# Altium footprint library Nimb_Ring_2_0.PcbLib: 49 footprints (part 3 of 4)
Each footprint in its own frame and in the unit in brackets; x right, y up, seen from the top. Pads: shape width x height; smd on the part's side, far side on the other; paste and mask are expansions set on the pad; w line width, h text height; cw(c..) or ccw(c..) is an arc to the next point about the centre after c.
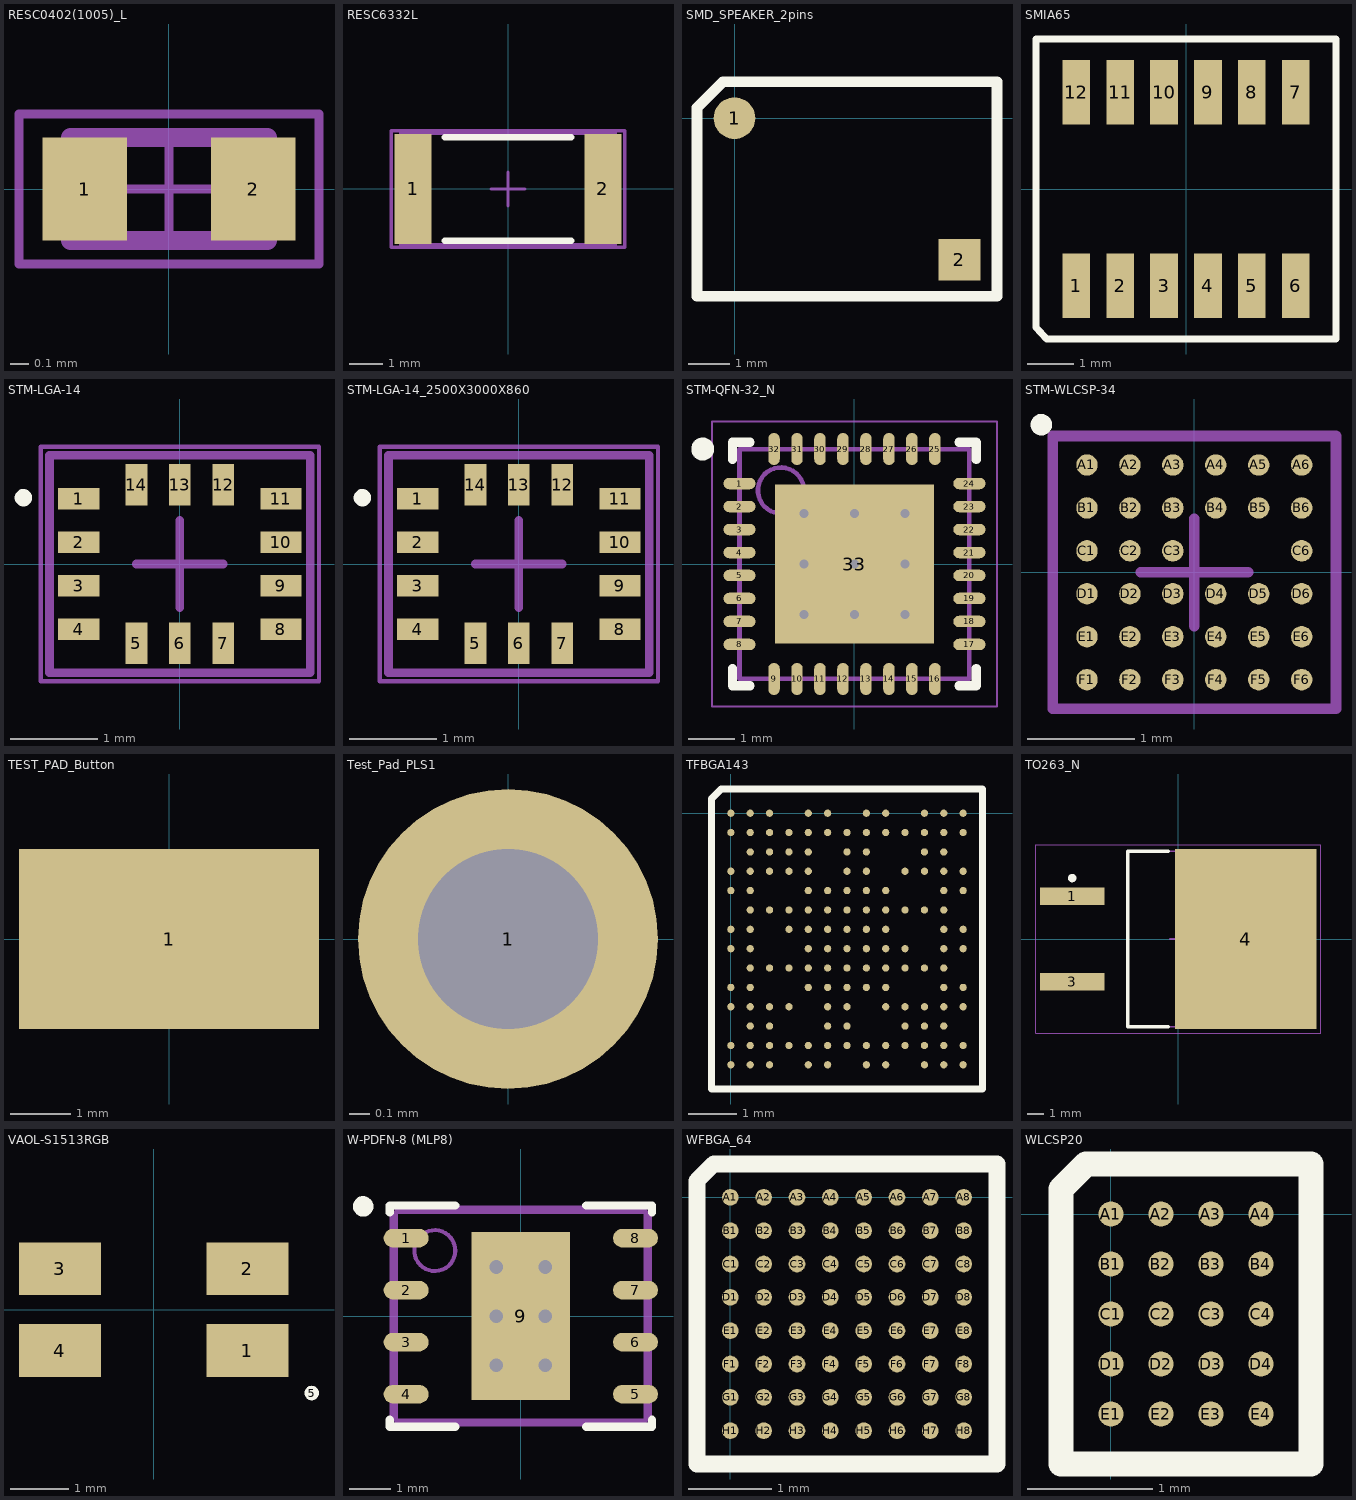
[diagram p2: the footprints below, top view; thin cyan lines are the x and y axes]

## RESC0402(1005)_L [mm] "Chip Resistor, Body 1.0x0.5mm, IPC High Density"
height 0.4
pads (2):
  rect 0.45x0.55 smd: 1(-0.45,0) 2(0.45,0)
Mechanical 13:
  lines w0.1: -0.525,-0.275 -0.525,0.275 0.525,0.275 0.525,-0.275 -0.525,-0.275
Mechanical 15:
  lines w0.05: -0.275,0 0.275,0 ; 0,-0.275 0,0.275 ; -0.8,-0.4 -0.8,0.4 0.8,0.4 0.8,-0.4 -0.8,-0.4
3D body: height 0.4, standoff 0, extent -0.525,-0.275 -0.3,0.275
3D body: height 0.4, standoff 0, extent -0.3,-0.275 0.3,0.275
3D body: height 0.4, standoff 0, extent 0.3,-0.275 0.525,0.275

## RESC6332L [mm] "Chip Resistor, Body 6.3x3.2mm, IPC High Density"
height 0.71
pads (2):
  rect 1.1x3.3 smd: 1(-2.85,0) 2(2.85,0)
Top Overlay:
  lines w0.2: -1.9,-1.55 1.9,-1.55 ; -1.9,1.55 1.9,1.55
Mechanical 13:
  lines w0.1: -3.225,-1.675 -3.225,1.675 3.225,1.675 3.225,-1.675 -3.225,-1.675
Mechanical 15:
  lines w0.1: -0.5,0 0.5,0 ; 0,-0.5 0,0.5 ; -3.5,-1.75 -3.5,1.75 3.5,1.75 3.5,-1.75 -3.5,-1.75
3D body: height 0.71, standoff 0, extent -3.225,-1.675 3.225,1.675

## SMD_SPEAKER_2pins [mm] "Achelous speaker"
height 1.62
pads (2):
  round 1 smd: 1(0,0)
  rect 1x1 smd: 2(5.4,-3.4)
Top Overlay:
  lines w0.254: -0.9,-4.275 -0.9,0.25 -0.275,0.875 6.3,0.875 6.3,-4.275 -0.9,-4.275
3D body: height 1.67, standoff 0.01, extent -0.625,-4.05 6.075,0.65

## SMIA65 [mm] "6.5mm x 6.5mm camera"
height 4.24
pads (12):
  rect 0.6x1.4 smd: 1(-2.375,-2.1) 2(-1.425,-2.1) 3(-0.475,-2.1) 4(0.475,-2.1) 5(1.425,-2.1) 6(2.375,-2.1) 7(2.375,2.1) 8(1.425,2.1) 9(0.475,2.1) 10(-0.475,2.1) 11(-1.425,2.1) 12(-2.375,2.1)
Top Overlay:
  lines w0.15: -3.25,-3 -3.25,3.25 3.25,3.25 3.25,-3.25 -3,-3.25 -3.017,-3.249 -3.25,-3

## STM-LGA-14 [mm] "LGA, 14-Leads, Body 3x2.5mm, Pitch 0.5mm"
height 0.86
pads (14):
  rect 0.475x0.25 smd: 1(-1.162,0.75) 2(-1.162,0.25) 3(-1.162,-0.25) 4(-1.162,-0.75) 8(1.162,-0.75) 9(1.162,-0.25) 10(1.162,0.25) 11(1.162,0.75)
  rect 0.25x0.475 smd: 5(-0.5,-0.913) 6(0,-0.913) 7(0.5,-0.913) 12(0.5,0.913) 13(0,0.913) 14(-0.5,0.913)
Top Overlay:
  circle w0.1: c-1.8,0.762 r0.05
Mechanical 13:
  lines w0.1: -1.5,-1.25 -1.5,1.25 1.5,1.25 1.5,-1.25 -1.5,-1.25
Mechanical 15:
  lines w0.05: -1.6,-1.35 -1.6,1.35 1.6,1.35 1.6,-1.35 -1.6,-1.35
  lines w0.1: -0.5,0 0.5,0 ; 0,-0.5 0,0.5
3D body: height 0.86, standoff 0, extent -1.5,-1.25 1.5,1.25

## STM-LGA-14_2500X3000X860 [mm] "LGA, 14-Leads, Body 3x2.5mm, Pitch 0.5mm"
height 0.86
pads (14):
  rect 0.475x0.25 smd: 1(-1.162,0.75) 2(-1.162,0.25) 3(-1.162,-0.25) 4(-1.162,-0.75) 8(1.162,-0.75) 9(1.162,-0.25) 10(1.162,0.25) 11(1.162,0.75)
  rect 0.25x0.475 smd: 5(-0.5,-0.913) 6(0,-0.913) 7(0.5,-0.913) 12(0.5,0.913) 13(0,0.913) 14(-0.5,0.913)
Top Overlay:
  circle w0.1: c-1.8,0.762 r0.05
Mechanical 13:
  lines w0.1: -1.5,-1.25 1.5,-1.25 1.5,1.25 -1.5,1.25 -1.5,-1.25
Mechanical 15:
  lines w0.05: -1.6,-1.35 1.6,-1.35 1.6,1.35 -1.6,1.35 -1.6,-1.35
  lines w0.1: -0.5,0 0.5,0 ; 0,-0.5 0,0.5
3D body: height 0.86, standoff 0, extent -1.5,-1.25 1.5,1.25

## STM-QFN-32_N [mm] "QFN, 32-Leads, Body 5x5mm, Pitch 0.5mm, Thermal Pad 3.45x3.45mm, IPC Medium Density"
height 1
pads (33):
  oval 0.7x0.25 smd: 1(-2.5,1.75) 2(-2.5,1.25) 3(-2.5,0.75) 4(-2.5,0.25) 5(-2.5,-0.25) 6(-2.5,-0.75) 7(-2.5,-1.25) 8(-2.5,-1.75) 17(2.5,-1.75) 18(2.5,-1.25) 19(2.5,-0.75) 20(2.5,-0.25) 21(2.5,0.25) 22(2.5,0.75) 23(2.5,1.25) 24(2.5,1.75)
  oval 0.25x0.7 smd: 9(-1.75,-2.5) 10(-1.25,-2.5) 11(-0.75,-2.5) 12(-0.25,-2.5) 13(0.25,-2.5) 14(0.75,-2.5) 15(1.25,-2.5) 16(1.75,-2.5) 25(1.75,2.5) 26(1.25,2.5) 27(0.75,2.5) 28(0.25,2.5) 29(-0.25,2.5) 30(-0.75,2.5) 31(-1.25,2.5) 32(-1.75,2.5)
  rect 3.45x3.45 smd: 33(0,0)
via 1.1,-1.1 diameter 0.5 hole 0.2
via 0,-1.1 diameter 0.5 hole 0.2
via -1.1,-1.1 diameter 0.5 hole 0.2
via 1.1,0 diameter 0.5 hole 0.2
via 0,0 diameter 0.5 hole 0.2
via -1.1,0 diameter 0.5 hole 0.2
via 1.1,1.1 diameter 0.5 hole 0.2
via 0,1.1 diameter 0.5 hole 0.2
via -1.1,1.1 diameter 0.5 hole 0.2
Top Overlay:
  circle w0.25: c-3.3,2.5 r0.125
  lines w0.2: -2.65,-2.275 -2.65,-2.65 -2.275,-2.65 ; -2.65,2.275 -2.65,2.65 -2.275,2.65 ; 2.275,-2.65 2.65,-2.65 2.65,-2.275 ; 2.275,2.65 2.65,2.65 2.65,2.275
Mechanical 13:
  circle w0.1: c-1.6,1.6 r0.5
  lines w0.1: -2.5,-2.5 2.5,-2.5 2.5,2.5 -2.5,2.5 -2.5,-2.5
Mechanical 15:
  lines w0.05: -3.1,-3.1 3.1,-3.1 3.1,3.1 -3.1,3.1 -3.1,-3.1
  lines w0.1: -0.5,0 0.5,0 ; 0,-0.5 0,0.5
3D body: height 1, standoff 0, extent -2.5,-2.5 2.5,2.5

## STM-WLCSP-34 [mm] "BGA, 34-Leads, Body 2.64x2.54mm, Pitch 0.4mm"
height 0.5
pads (34):
  round 0.2 smd: A1(-1,1) A2(-0.6,1) A3(-0.2,1) A4(0.2,1) A5(0.6,1) A6(1,1) B1(-1,0.6) B2(-0.6,0.6) B3(-0.2,0.6) B4(0.2,0.6) B5(0.6,0.6) B6(1,0.6) C1(-1,0.2) C2(-0.6,0.2) C3(-0.2,0.2) C6(1,0.2) D1(-1,-0.2) D2(-0.6,-0.2) D3(-0.2,-0.2) D4(0.2,-0.2) D5(0.6,-0.2) D6(1,-0.2) E1(-1,-0.6) E2(-0.6,-0.6) E3(-0.2,-0.6) E4(0.2,-0.6) E5(0.6,-0.6) E6(1,-0.6) F1(-1,-1) F2(-0.6,-1) F3(-0.2,-1) F4(0.2,-1) F5(0.6,-1) F6(1,-1)
Top Overlay:
  circle w0.1: c-1.425,1.375 r0.05
Mechanical 13:
  lines w0.1: -1.32,-1.27 1.32,-1.27 1.32,1.27 -1.32,1.27 -1.32,-1.27
Mechanical 15:
  lines w0.1: -0.5,0 0.5,0 ; 0,-0.5 0,0.5 ; -1.32,-1.27 -1.32,1.27 1.32,1.27 1.32,-1.27 -1.32,-1.27
3D body: height 0.5, standoff 0.2, extent -1.32,-1.27 1.32,1.27

## TEST_PAD_Button [mm]
pads (1):
  rect 5x3 smd: 1(0,0)

## Test_Pad_PLS1 [mm]
pads (1):
  round 1.5 hole 0.9 paste+0.1 mask+0: 1(0,0)
3D body "User Library-PLS-1.STEP": height 8.44, standoff -3, extent -1.27,-1.27 1.27,1.27

## TFBGA143 [mm] "5.4mm?6.2mm, 143-ball, 0.4mm pitch"
height 1
pads (143):
  round 0.15 smd: A1(0,0) A2(0.4,0) A3(0.8,0) A5(1.6,0) A6(2,0) A8(2.8,0) A9(3.2,0) A11(4,0) A12(4.4,0) A13(4.8,0) B1(0,-0.4) B2(0.4,-0.4) B3(0.8,-0.4) B4(1.2,-0.4) B5(1.6,-0.4) B6(2,-0.4) B7(2.4,-0.4) B8(2.8,-0.4) B9(3.2,-0.4) B10(3.6,-0.4) B11(4,-0.4) B12(4.4,-0.4) B13(4.8,-0.4) C2(0.4,-0.8) C3(0.8,-0.8) C4(1.2,-0.8) C5(1.6,-0.8) C7(2.4,-0.8) C8(2.8,-0.8) C11(4,-0.8) C12(4.4,-0.8) D1(0,-1.2) D2(0.4,-1.2) D3(0.8,-1.2) D4(1.2,-1.2) D5(1.6,-1.2) D7(2.4,-1.2) D8(2.8,-1.2) D10(3.6,-1.2) D11(4,-1.2) D12(4.4,-1.2) D13(4.8,-1.2) E1(0,-1.6) E2(0.4,-1.6) E5(1.6,-1.6) E6(2,-1.6) E7(2.4,-1.6) E8(2.8,-1.6) E9(3.2,-1.6) E12(4.4,-1.6) E13(4.8,-1.6) F2(0.4,-2) F3(0.8,-2) F4(1.2,-2) F5(1.6,-2) F6(2,-2) F7(2.4,-2) F8(2.8,-2) F9(3.2,-2) F10(3.6,-2) F11(4,-2) F12(4.4,-2) G1(0,-2.4) G2(0.4,-2.4) G4(1.2,-2.4) G5(1.6,-2.4) G6(2,-2.4) G7(2.4,-2.4) G8(2.8,-2.4) G9(3.2,-2.4) G12(4.4,-2.4) G13(4.8,-2.4) H1(0,-2.8) H2(0.4,-2.8) H5(1.6,-2.8) H6(2,-2.8) H7(2.4,-2.8) H8(2.8,-2.8) H9(3.2,-2.8) H10(3.6,-2.8) H12(4.4,-2.8) H13(4.8,-2.8) J2(0.4,-3.2) J3(0.8,-3.2) J4(1.2,-3.2) J5(1.6,-3.2) J6(2,-3.2) J7(2.4,-3.2) J8(2.8,-3.2) J9(3.2,-3.2) J10(3.6,-3.2) J11(4,-3.2) J12(4.4,-3.2) K1(0,-3.6) K2(0.4,-3.6) K5(1.6,-3.6) K6(2,-3.6) K7(2.4,-3.6) K8(2.8,-3.6) K9(3.2,-3.6) K12(4.4,-3.6) K13(4.8,-3.6) L1(0,-4) L2(0.4,-4) L3(0.8,-4) L4(1.2,-4) L6(2,-4) L7(2.4,-4) L9(3.2,-4) L10(3.6,-4) L11(4,-4) L12(4.4,-4) L13(4.8,-4) M2(0.4,-4.4) M3(0.8,-4.4) M6(2,-4.4) M7(2.4,-4.4) M10(3.6,-4.4) M11(4,-4.4) M12(4.4,-4.4) N1(0,-4.8) N2(0.4,-4.8) N3(0.8,-4.8) N4(1.2,-4.8) N5(1.6,-4.8) N6(2,-4.8) N7(2.4,-4.8) N8(2.8,-4.8) N9(3.2,-4.8) N10(3.6,-4.8) N11(4,-4.8) N12(4.4,-4.8) N13(4.8,-4.8) P1(0,-5.2) P2(0.4,-5.2) P3(0.8,-5.2) P5(1.6,-5.2) P6(2,-5.2) P8(2.8,-5.2) P9(3.2,-5.2) P11(4,-5.2) P12(4.4,-5.2) P13(4.8,-5.2)
Top Overlay:
  lines w0.15: -0.4,-5.7 -0.4,0.3 -0.2,0.5 5.2,0.5 5.2,-5.7 -0.4,-5.7
3D body: height 1, standoff 0, extent -0.3,-5.7 5.1,0.5

## TO263_N [mm] "D2-PAK, 4-Leads, Body 9.1x10.2mm, Pitch 2.54mm, Lead Span 15.2mm, IPC Medium Density"
height 4.7
pads (3):
  rect 3.8x1.05 smd: 1(-6.3,2.54) 3(-6.3,-2.54)
  rect 8.4x10.7 smd: 4(4,0)
Top Overlay:
  circle w0.25: c-6.3,3.615 r0.125
  lines w0.2: -0.6,-5.2 -3,-5.2 -3,5.2 -0.6,5.2
Mechanical 13:
  lines w0.1: -3,-5.2 6.65,-5.2 6.65,5.2 -3,5.2 -3,-5.2
Mechanical 15:
  lines w0.05: -8.45,-5.6 8.45,-5.6 8.45,5.6 -8.45,5.6 -8.45,-5.6
  lines w0.1: -0.5,0 0.5,0 ; 0,-0.5 0,0.5
3D body: height 4.7, standoff 0.15, extent -3,-5.2 6.65,5.2

## VAOL-S1513RGB [mm] "3.2mm x 2.6mm"
height 1.1
pads (5):
  rect 1.4x0.9 smd: 1(1.6,-0.7) 2(1.6,0.7) 3(-1.6,0.7) 4(-1.6,-0.7)
  round 0.25 on Top Overlay: 5(2.7,-1.425)
3D body "VAOL-S1513RGB.stp": height 1.1, standoff 0, extent -1.596,-1.306 1.604,1.294

## W-PDFN-8 (MLP8) [mm] "W-PDFN-8 (MLP8) – 6mm ? 5mm"
height 0.8
pads (9):
  oval 1.1x0.45 smd: 1(-2.8,1.905) 2(-2.8,0.635) 3(-2.8,-0.635) 4(-2.8,-1.905) 5(2.8,-1.905) 6(2.8,-0.635) 7(2.8,0.635) 8(2.8,1.905)
  rect 2.4x4.1 smd: 9(0,0)
via -0.6,1.2 diameter 0.66 hole 0.33
via 0.6,1.2 diameter 0.66 hole 0.33
via -0.6,0 diameter 0.66 hole 0.33
via 0.6,0 diameter 0.66 hole 0.33
via -0.6,-1.2 diameter 0.66 hole 0.33
via 0.6,-1.2 diameter 0.66 hole 0.33
Top Overlay:
  circle w0.25: c-3.85,2.68 r0.125
  lines w0.2: -3.2,-2.53 -3.2,-2.7 -1.6,-2.7 ; -3.2,2.53 -3.2,2.7 -1.6,2.7 ; 1.6,-2.7 3.2,-2.7 3.2,-2.53 ; 1.6,2.7 3.2,2.7 3.2,2.53
Mechanical 13:
  circle w0.1: c-2.1,1.6 r0.5
  lines w0.1: -3.05,-2.55 -3.05,2.55 3.05,2.55 3.05,-2.55 -3.05,-2.55
Mechanical 15:
  lines w0.1: -0.5,0 0.5,0 ; 0,-0.5 0,0.5 ; -3.15,-2.65 -3.15,2.65 3.15,2.65 3.15,-2.65 -3.15,-2.65
3D body: height 0.8, standoff 0, extent -3.05,-2.55 3.05,2.55

## WFBGA_64 [mm]
pads (64):
  round 0.2 smd: A1(0,0) A2(0.4,0) A3(0.8,0) A4(1.2,0) A5(1.6,0) A6(2,0) A7(2.4,0) A8(2.8,0) B1(0,-0.4) B2(0.4,-0.4) B3(0.8,-0.4) B4(1.2,-0.4) B5(1.6,-0.4) B6(2,-0.4) B7(2.4,-0.4) B8(2.8,-0.4) C1(0,-0.8) C2(0.4,-0.8) C3(0.8,-0.8) C4(1.2,-0.8) C5(1.6,-0.8) C6(2,-0.8) C7(2.4,-0.8) C8(2.8,-0.8) D1(0,-1.2) D2(0.4,-1.2) D3(0.8,-1.2) D4(1.2,-1.2) D5(1.6,-1.2) D6(2,-1.2) D7(2.4,-1.2) D8(2.8,-1.2) E1(0,-1.6) E2(0.4,-1.6) E3(0.8,-1.6) E4(1.2,-1.6) E5(1.6,-1.6) E6(2,-1.6) E7(2.4,-1.6) E8(2.8,-1.6) F1(0,-2) F2(0.4,-2) F3(0.8,-2) F4(1.2,-2) F5(1.6,-2) F6(2,-2) F7(2.4,-2) F8(2.8,-2) G1(0,-2.4) G2(0.4,-2.4) G3(0.8,-2.4) G4(1.2,-2.4) G5(1.6,-2.4) G6(2,-2.4) G7(2.4,-2.4) G8(2.8,-2.4) H1(0,-2.8) H2(0.4,-2.8) H3(0.8,-2.8) H4(1.2,-2.8) H5(1.6,-2.8) H6(2,-2.8) H7(2.4,-2.8) H8(2.8,-2.8)
Top Overlay:
  lines w0.2: -0.4,-3.2 3.2,-3.2 3.2,0.4 -0.2,0.4 -0.4,0.2 -0.4,-3.2
3D body: height 0.8, standoff 0.01, extent -0.6,-3.4 3.4,0.6

## WLCSP20 [mm]
pads (20):
  round 0.2 smd: A1(0,0) A2(0.4,0) A3(0.8,0) A4(1.2,0) B1(0,-0.4) B2(0.4,-0.4) B3(0.8,-0.4) B4(1.2,-0.4) C1(0,-0.8) C2(0.4,-0.8) C3(0.8,-0.8) C4(1.2,-0.8) D1(0,-1.2) D2(0.4,-1.2) D3(0.8,-1.2) D4(1.2,-1.2) E1(0,-1.6) E2(0.4,-1.6) E3(0.8,-1.6) E4(1.2,-1.6)
Top Overlay:
  lines w0.2: -0.4,-2 1.6,-2 1.6,0.4 -0.2,0.4 -0.4,0.2 -0.4,-2
3D body: height 0.6, standoff 0.01, extent -0.2,-1.8 1.4,0.2